# EAGLE library part 74LVC1T45GW,125 (library 74LVC1T45GW_125)
74LVC1T45; 74LVCH1T45 - Dual supply translating transceiver; 3-state@en-us Source: Datasheet <https://assets.nexperia.com/documents/data-sheet/74LVC_LVCH1T45.pdf>
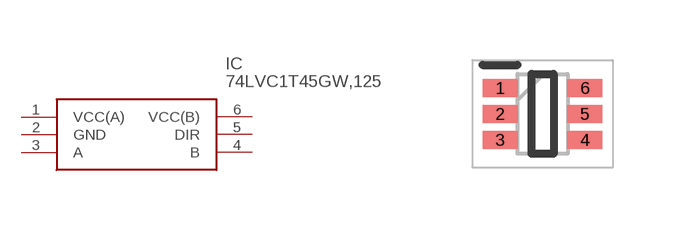
[diagram p0: symbol with the pads of SOP65P210X110-6N; footprint SOP65P210X110-6N]

Designator prefix IC

## 74LVC1T45GW,125 (Arrow_Part_Number: 74LVC1T45GW,125; Arrow_Price-Stock: https://www.arrow.com/en/products/74lvc1t45gw125/nexperia; Description: 74LVC1T45; 74LVCH1T45 - Dual supply translating transceiver; 3-state@en-us; Height: 1.1mm; Manufacturer_Name: Nexperia; Manufacturer_Part_Number: 74LVC1T45GW,125; Mouser_Part_Number: 771-74LVC1T45GW125; Mouser_Price-Stock: https://www.mouser.co.uk/ProductDetail/Nexperia/74LVC1T45GW125?qs=jquClx72t9Aoi%252BsTRKaaAg%3D%3D)  [SOP65P210X110-6N]
1  VCC(A)
2  GND
3  A
4  B
5  DIR
6  VCC(B)

## Footprint SOP65P210X110-6N (pad centres in mm)
SOT363
smd 0.875 x 0.45: 1 -1.062,0.65; 2 -1.062,0; 3 -1.062,-0.65; 4 1.062,-0.65; 5 1.062,0; 6 1.062,0.65